# EAGLE library part TC4428 (library parts-mar)
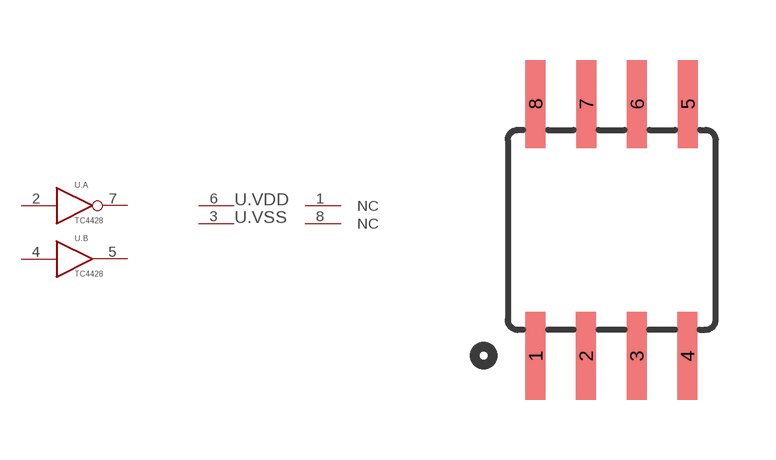
[diagram p2: symbol with the pads of SOIC8; footprint SOIC8]

Designator prefix -; gates .B=BUF .A=INV .VDD=.VDD .VSS=.VSS G$3=NC G$4=NC

## TC4428  [SOIC8]
1  G$3:NC  nc
2  .A:I  in
3  .VSS:VSS  pwr
4  .B:I  in
5  .B:O  out
6  .VDD:VDD  pwr
7  .A:O  out
8  G$4:NC  nc

## Footprint SOIC8 (pad centres in mm)
Wide Plastic Gull Wing Small Outline Package
smd 0.5 x 2.2: 1 -1.905,-3.154; 2 -0.645,-3.154; 3 0.625,-3.154; 4 1.895,-3.154; 5 1.905,3.154; 6 0.635,3.154; 7 -0.635,3.154; 8 -1.905,3.154